# EAGLE library part MCP23S17_IOEXP (library ZMPLC)
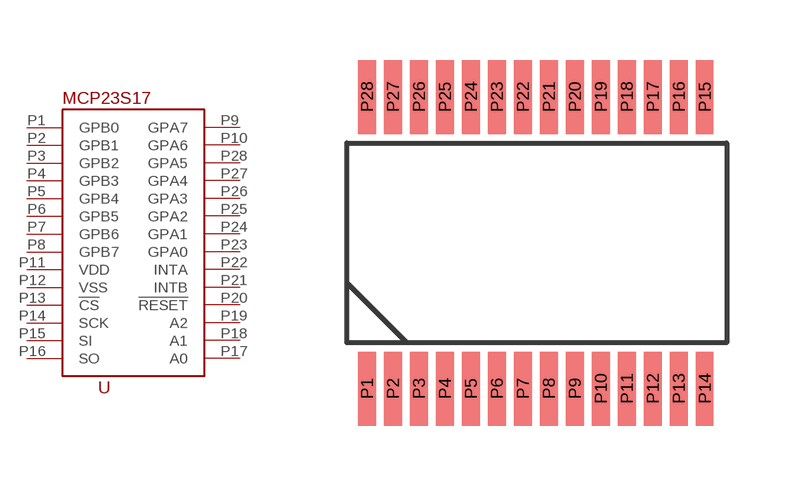
[diagram p18: symbol with the pads of SSOP28; footprint SSOP28]

Designator prefix -

## MCP23S17_IOEXP  [SSOP28]
P1  GPB0
P2  GPB1
P3  GPB2
P4  GPB3
P5  GPB4
P6  GPB5
P7  GPB6
P8  GPB7
P9  GPA7
P10  GPA6
P11  VDD  pwr
P12  VSS  pwr
P13  !CS!
P14  SCK
P15  SI
P16  SO
P17  A0
P18  A1
P19  A2
P20  !RESET!
P21  INTB
P22  INTA
P23  GPA0
P24  GPA1
P25  GPA2
P26  GPA3
P27  GPA4
P28  GPA5

## Footprint SSOP28 (pad centres in mm)
smd 0.45 x 1.85: P1 0,-3.65; P2 0.65,-3.65; P3 1.3,-3.65; P4 1.95,-3.65; P5 2.6,-3.65; P6 3.25,-3.65; P7 3.9,-3.65; P8 4.55,-3.65; P9 5.2,-3.65; P10 5.85,-3.65; P11 6.5,-3.65; P12 7.15,-3.65; P13 7.8,-3.65; P14 8.45,-3.65; P15 8.45,3.65; P16 7.8,3.65; P17 7.15,3.65; P18 6.5,3.65; P19 5.85,3.65; P20 5.2,3.65; P21 4.55,3.65; P22 3.9,3.65; P23 3.25,3.65; P24 2.6,3.65; P25 1.95,3.65; P26 1.3,3.65; P27 0.65,3.65; P28 0,3.65